# Altium schematic symbol library axsem_zoorion_modules_v1-0.SCHLIB: 1 symbol
Pins are listed as number, name and electrical type; pins without a type are passive.

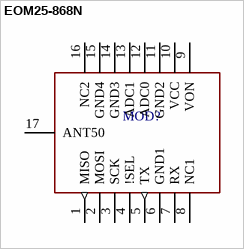
[diagram p0: symbol EOM25-868N]

## EOM25-868N
designator MOD?
footprint OOO-MOD-868-CON
pins: 1 MISO (out), 2 MOSI, 3 SCK, 4 !SEL, 5 TX (out), 6 GND1 (power), 7 RX, 8 NC1, 9 VON, 10 VCC (power), 11 GND2 (power), 12 ADC0, 13 ADC1, 14 GND3 (power), 15 GND4 (power), 16 NC2, 17 ANT50